# EAGLE library part MM74HC139 (library IC)
http://eshop.engineering.uiowa.edu/NI/pdfs/00/53/DS005311.pdf
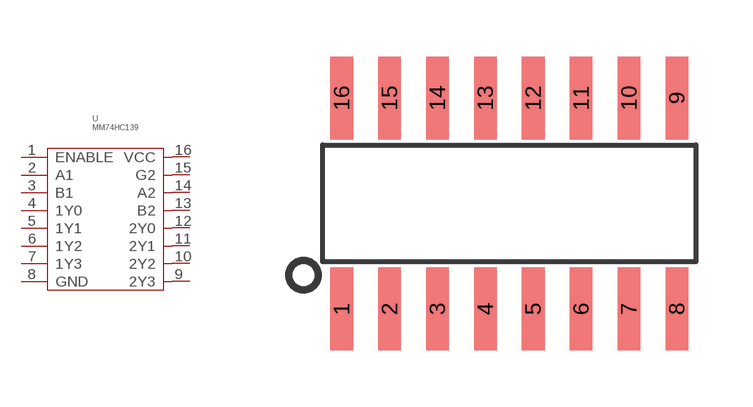
[diagram p106: symbol with the pads of SOIC16; footprint SOIC16]

Designator prefix U

## MM74HC139-M16A  [SOIC16]
1  ENABLE  in
2  A1  in
3  B1  in
4  1Y0  out
5  1Y1  out
6  1Y2  out
7  1Y3  out
8  GND  sup
9  2Y3  out
10  2Y2  out
11  2Y1  out
12  2Y0  out
13  B2  in
14  A2  in
15  G2  in
16  VCC  sup

## Footprint SOIC16 (pad centres in mm)
smd 0.6 x 2.2: 1 -4.445,-2.8; 2 -3.175,-2.8; 3 -1.905,-2.8; 4 -0.635,-2.8; 5 0.635,-2.8; 6 1.905,-2.8; 7 3.175,-2.8; 8 4.445,-2.8; 9 4.445,2.8; 10 3.175,2.8; 11 1.905,2.8; 12 0.635,2.8; 13 -0.635,2.8; 14 -1.905,2.8; 15 -3.175,2.8; 16 -4.445,2.8